# Altium schematic symbol library Schlib2.SchLib: 1 symbol
Pins are listed as number, name and electrical type; pins without a type are passive.

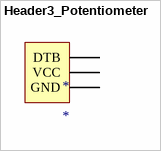
[diagram p0: symbol Header3_Potentiometer]

## Header3_Potentiometer
designator *
footprint HDR1X3_Potentiometer
pins: 1 GND "DT", 2 VCC "CLK", 3 DTB